# Altium schematic symbol library camera-modules.SCHLIB: 21 symbols
Pins are listed as number, name and electrical type; pins without a type are passive.

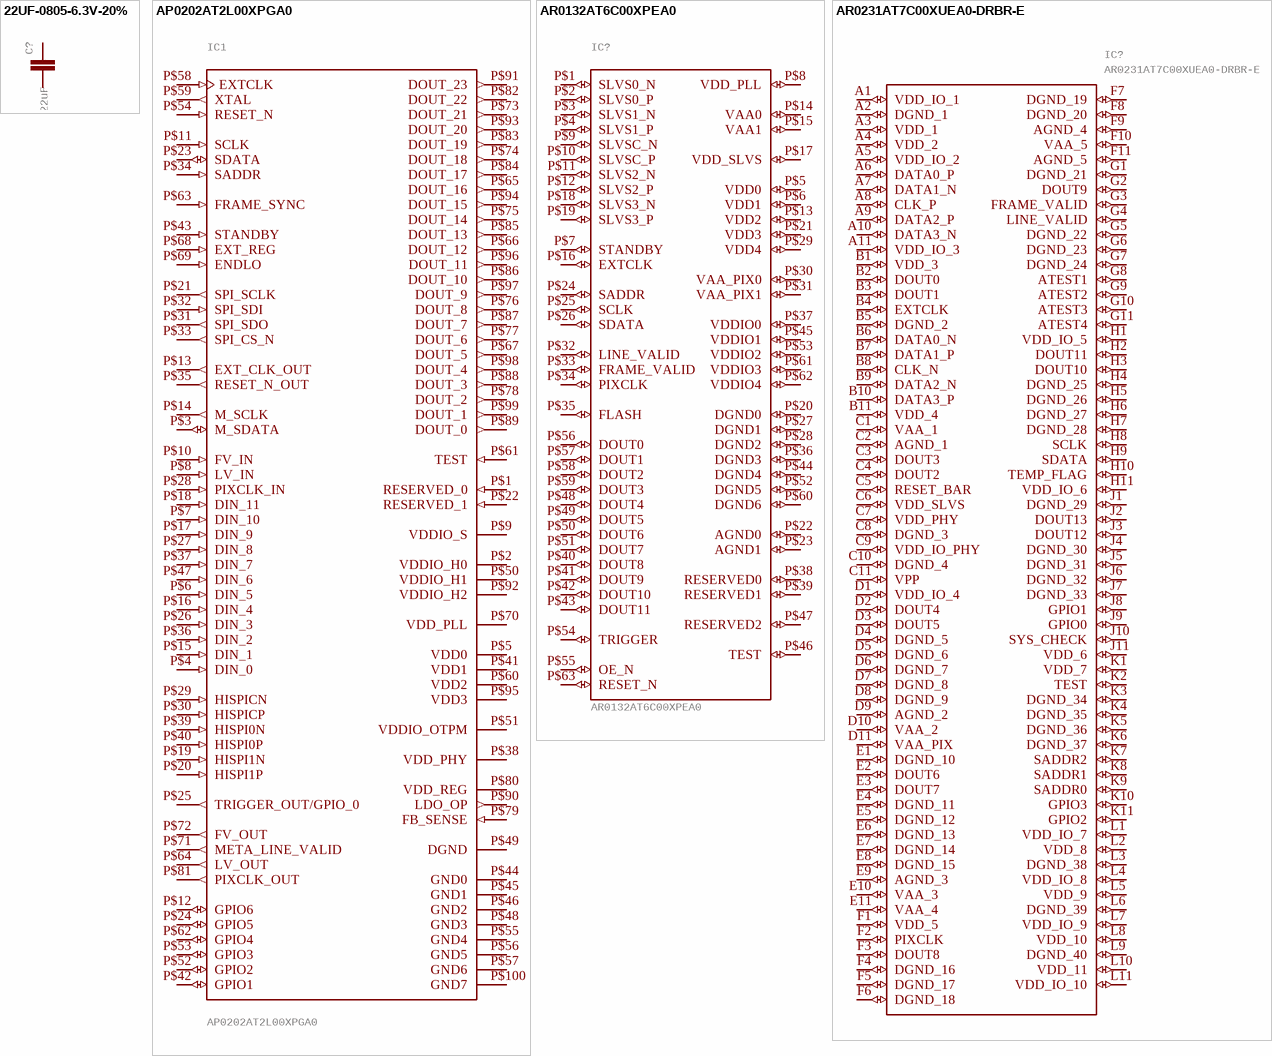
[diagram p0: symbols 22UF-0805-6.3V-20% to AR0231AT7C00XUEA0-DRBR-E]

## 22UF-0805-6.3V-20%
designator C?, comment 22uF
22ÂµF ceramic capacitors    A capacitor is a passive two-terminal electrical component used to store electrical energy temporarily in an electric field.; MPN: CL21A226MQQNNNE; GateName_1: G$1; SymbolName_1: CAP; DeviceName: -0805-6.3V-20%; PROD_ID: CAP-08402; LibraryName: SparkFun-Capacitors; DeviceSetName: 22UF
footprint 0805
pins: 1, 2

## AP0202AT2L00XPGA0
designator IC1
MPN: AP0202AT2L00XPGA0-DR; GateName_1: G$1; SymbolName_1: AP0202AT2L00XPGA0; LibraryName: AP0202AT2L00XPGA0; DeviceSetName: AP0202AT2L00XPGA0
footprint AP0202AT2L00XPGA0
pins: P$1 RESERVED_0 (in), P$2 VDDIO_H0 (power), P$3 M_SDATA (io), P$4 DIN_0 (in), P$5 VDD0 (power), P$6 DIN_5 (in), P$7 DIN_10 (in), P$8 LV_IN (in), P$9 VDDIO_S (power), P$10 FV_IN (in), P$11 SCLK (in), P$12 GPIO6 (io), P$13 EXT_CLK_OUT (out), P$14 M_SCLK (out), P$15 DIN_1 (in), P$16 DIN_4 (in), P$17 DIN_9 (in), P$18 DIN_11 (in), P$19 HISPI1N (in), P$20 HISPI1P (in), P$21 SPI_SCLK (out), P$22 RESERVED_1 (in), P$23 SDATA (io), P$24 GPIO5 (io), P$25 TRIGGER_OUT/GPIO_0 (out), P$26 DIN_3 (in), P$27 DIN_8 (in), P$28 PIXCLK_IN (in), P$29 HISPICN (in), P$30 HISPICP (in), P$31 SPI_SDO (out), P$32 SPI_SDI (in), P$33 SPI_CS_N (out), P$34 SADDR (in), P$35 RESET_N_OUT (out), P$36 DIN_2 (in), P$37 DIN_7 (in), P$38 VDD_PHY (power), P$39 HISPI0N (in), P$40 HISPI0P (in), P$41 VDD1 (power), P$42 GPIO1 (io), P$43 STANDBY (in), P$44 GND0 (power), P$45 GND1 (power), P$46 GND2 (power), P$47 DIN_6 (in), P$48 GND3 (power), P$49 DGND (power), P$50 VDDIO_H1 (power), P$51 VDDIO_OTPM (power), P$52 GPIO2 (io), P$53 GPIO3 (io), P$54 RESET_N (in), P$55 GND4 (power), P$56 GND5 (power), P$57 GND6 (power), P$58 EXTCLK (in), P$59 XTAL (out), P$60 VDD2 (power), P$61 TEST (in), P$62 GPIO4 (io), P$63 FRAME_SYNC (in), P$64 LV_OUT (out), P$65 DOUT_16 (out), P$66 DOUT_12 (out), P$67 DOUT_5 (out), P$68 EXT_REG (in), P$69 ENDLO (in), P$70 VDD_PLL (power), P$71 META_LINE_VALID (out), P$72 FV_OUT (out), P$73 DOUT_21 (out), P$74 DOUT_18 (out), P$75 DOUT_14 (out), P$76 DOUT_8 (out), P$77 DOUT_6 (out), P$78 DOUT_2 (out), P$79 FB_SENSE (in), P$80 VDD_REG (power), P$81 PIXCLK_OUT (out), P$82 DOUT_22 (out), P$83 DOUT_19 (out), P$84 DOUT_17 (out), P$85 DOUT_13 (out), P$86 DOUT_10 (out), P$87 DOUT_7 (out), P$88 DOUT_3 (out), P$89 DOUT_0 (out), P$90 LDO_OP (out), P$91 DOUT_23 (out), P$92 VDDIO_H2 (power), P$93 DOUT_20 (out), P$94 DOUT_15 (out), P$95 VDD3 (power), P$96 DOUT_11 (out), P$97 DOUT_9 (out), P$98 DOUT_4 (out), P$99 DOUT_1 (out), P$100 GND7 (power)

## AR0132AT6C00XPEA0
designator IC?
MPN: AR0132AT6C00XPEA0-TPBR; GateName_1: G$1; SymbolName_1: AR0132AT6C00XPEA0; LibraryName: AR0132AT6C00XPEA0; DeviceSetName: AR0132AT6C00XPEA0; Part Number: AR0132AT6C00XPEA0-TPBR
footprint AR0132AT6C00XPEA0
pins: P$1 SLVS0_N (io), P$2 SLVS0_P (io), P$3 SLVS1_N (io), P$4 SLVS1_P (io), P$5 VDD0 (io), P$6 VDD1 (io), P$7 STANDBY (io), P$8 VDD_PLL (io), P$9 SLVSC_N (io), P$10 SLVSC_P (io), P$11 SLVS2_N (io), P$12 SLVS2_P (io), P$13 VDD2 (io), P$14 VAA0 (io), P$15 VAA1 (io), P$16 EXTCLK (io), P$17 VDD_SLVS (io), P$18 SLVS3_N (io), P$19 SLVS3_P (io), P$20 DGND0 (io), P$21 VDD3 (io), P$22 AGND0 (io), P$23 AGND1 (io), P$24 SADDR (io), P$25 SCLK (io), P$26 SDATA (io), P$27 DGND1 (io), P$28 DGND2 (io), P$29 VDD4 (io), P$30 VAA_PIX0 (io), P$31 VAA_PIX1 (io), P$32 LINE_VALID (io), P$33 FRAME_VALID (io), P$34 PIXCLK (io), P$35 FLASH (io), P$36 DGND3 (io), P$37 VDDIO0 (io), P$38 RESERVED0 (io), P$39 RESERVED1 (io), P$40 DOUT8 (io), P$41 DOUT9 (io), P$42 DOUT10 (io), P$43 DOUT11 (io), P$44 DGND4 (io), P$45 VDDIO1 (io), P$46 TEST (io), P$47 RESERVED2 (io), P$48 DOUT4 (io), P$49 DOUT5 (io), P$50 DOUT6 (io), P$51 DOUT7 (io), P$52 DGND5 (io), P$53 VDDIO2 (io), P$54 TRIGGER (io), P$55 OE_N (io), P$56 DOUT0 (io), P$57 DOUT1 (io), P$58 DOUT2 (io), P$59 DOUT3 (io), P$60 DGND6 (io), P$61 VDDIO3 (io), P$62 VDDIO4 (io), P$63 RESET_N (io)

## AR0231AT7C00XUEA0-DRBR-E
designator IC?
Image Sensor Color CMOS 1928 x 1208Pixels   Source:  Datasheet; MANUFACTURER_NAME: onsemi; MPN: AR0231AT7C00XUEA0-DPBR; GateName_1: G$1; SymbolName_1: AR0231AT7C00XUEA0-DRBR-E; LibraryName: AR0231AT7C00XUEA0-DRBR-E; DeviceSetName: AR0231AT7C00XUEA0-DRBR-E; ARROW_PART_NUMBER: ARROW_PART_NUMBER; ARROW_PRICE-STOCK: ARROW_PRICE-STOCK; HEIGHT: 1.55mm; MANUFACTURER_PART_NUMBER: AR0231AT7C00XUEA0-DRBR-E; MOUSER_PART_NUMBER: MOUSER_PART_NUMBER; MOUSER_PRICE-STOCK: MOUSER_PRICE-STOCK
footprint BGA121C80P11X11_1100X1000X155
pins: A1 VDD_IO_1 (io), A2 DGND_1 (io), A3 VDD_1 (io), A4 VDD_2 (io), A5 VDD_IO_2 (io), A6 DATA0_P (io), A7 DATA1_N (io), A8 CLK_P (io), A9 DATA2_P (io), A10 DATA3_N (io), A11 VDD_IO_3 (io), B1 VDD_3 (io), B2 DOUT0 (io), B3 DOUT1 (io), B4 EXTCLK (io), B5 DGND_2 (io), B6 DATA0_N (io), B7 DATA1_P (io), B8 CLK_N (io), B9 DATA2_N (io), B10 DATA3_P (io), B11 VDD_4 (io), C1 VAA_1 (io), C2 AGND_1 (io), C3 DOUT3 (io), C4 DOUT2 (io), C5 RESET_BAR (io), C6 VDD_SLVS (io), C7 VDD_PHY (io), C8 DGND_3 (io), C9 VDD_IO_PHY (io), C10 DGND_4 (io), C11 VPP (io), D1 VDD_IO_4 (io), D2 DOUT4 (io), D3 DOUT5 (io), D4 DGND_5 (io), D5 DGND_6 (io), D6 DGND_7 (io), D7 DGND_8 (io), D8 DGND_9 (io), D9 AGND_2 (io), D10 VAA_2 (io), D11 VAA_PIX (io), E1 DGND_10 (io), E2 DOUT6 (io), E3 DOUT7 (io), E4 DGND_11 (io), E5 DGND_12 (io), E6 DGND_13 (io), E7 DGND_14 (io), E8 DGND_15 (io), E9 AGND_3 (io), E10 VAA_3 (io), E11 VAA_4 (io), F1 VDD_5 (io), F2 PIXCLK (io), F3 DOUT8 (io), F4 DGND_16 (io), F5 DGND_17 (io), F6 DGND_18 (io), F7 DGND_19 (io), F8 DGND_20 (io), F9 AGND_4 (io), F10 VAA_5 (io), F11 AGND_5 (io), G1 DGND_21 (io), G2 DOUT9 (io), G3 FRAME_VALID (io), G4 LINE_VALID (io), G5 DGND_22 (io), G6 DGND_23 (io), G7 DGND_24 (io), G8 ATEST1 (io), G9 ATEST2 (io), G10 ATEST3 (io), G11 ATEST4 (io), H1 VDD_IO_5 (io), H2 DOUT11 (io), H3 DOUT10 (io), H4 DGND_25 (io), H5 DGND_26 (io), H6 DGND_27 (io), H7 DGND_28 (io), H8 SCLK (io), H9 SDATA (io), H10 TEMP_FLAG (io), H11 VDD_IO_6 (io), J1 DGND_29 (io), J2 DOUT13 (io), J3 DOUT12 (io), J4 DGND_30 (io), J5 DGND_31 (io), J6 DGND_32 (io), J7 DGND_33 (io), J8 GPIO1 (io), J9 GPIO0 (io), J10 SYS_CHECK (io), J11 VDD_6 (io), K1 VDD_7 (io), K2 TEST (io), K3 DGND_34 (io), K4 DGND_35 (io), K5 DGND_36 (io), K6 DGND_37 (io), K7 SADDR2 (io), K8 SADDR1 (io), K9 SADDR0 (io), K10 GPIO3 (io), K11 GPIO2 (io), L1 VDD_IO_7 (io), L2 VDD_8 (io), L3 DGND_38 (io), L4 VDD_IO_8 (io), L5 VDD_9 (io), L6 DGND_39 (io), L7 VDD_IO_9 (io), L8 VDD_10 (io), L9 DGND_40 (io), L10 VDD_11 (io), L11 VDD_IO_10 (io)

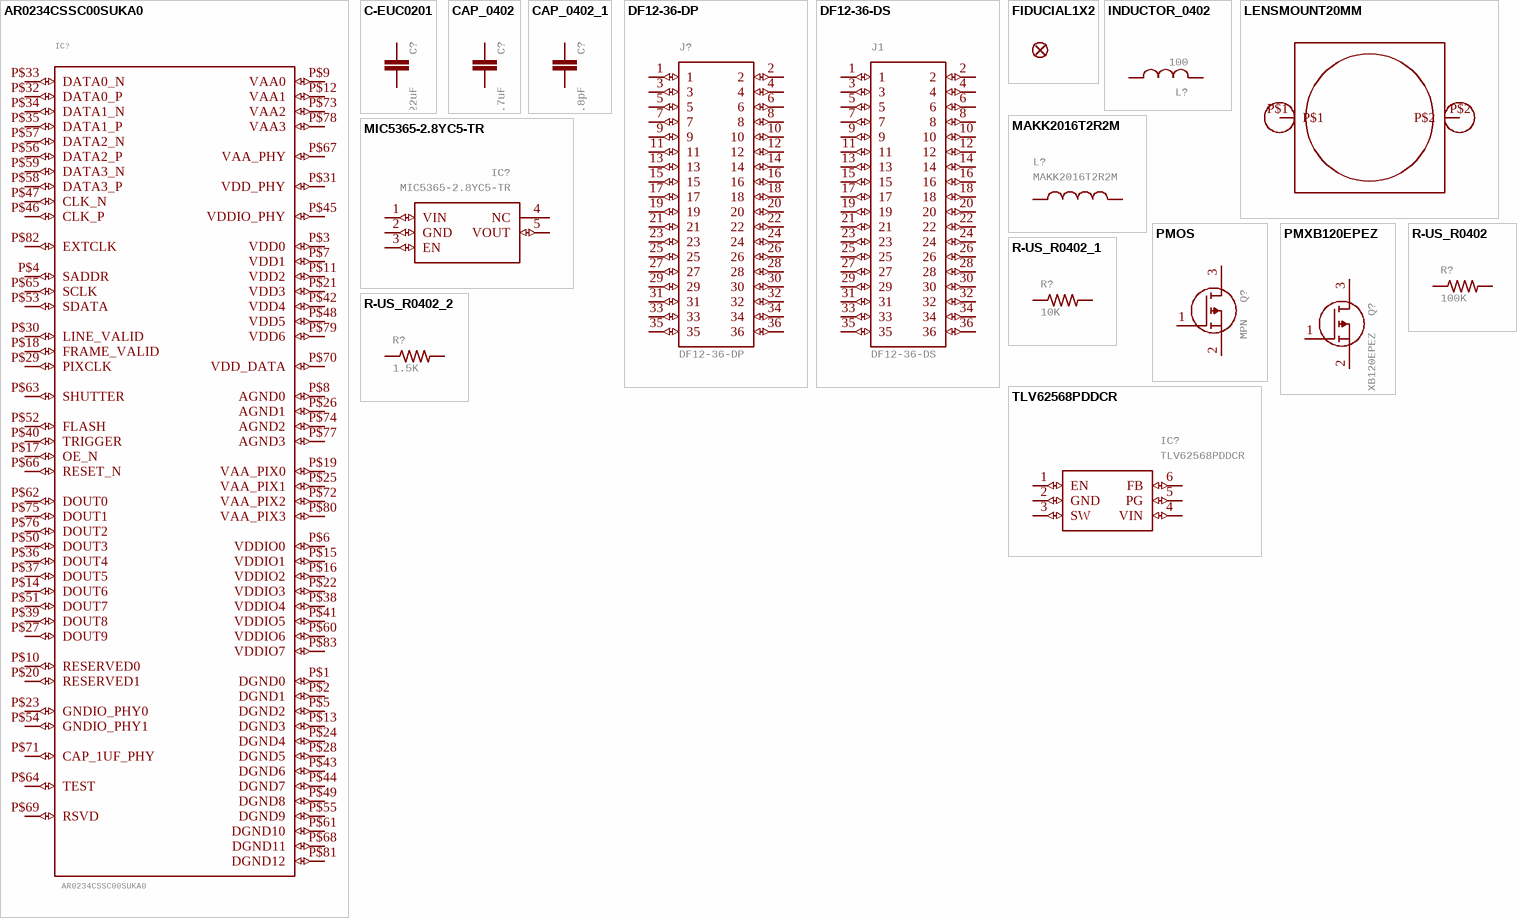
[diagram p1: symbols AR0234CSSC00SUKA0 to TLV62568PDDCR]

## AR0234CSSC00SUKA0
designator IC?
GateName_1: G$1; SymbolName_1: AR0234CSSC00SUKA0; LibraryName: AR0234CSSC00SUKA0; DeviceSetName: AR0234CSSC00SUKA0
footprint AR0234CSSC00SUKA0
pins: P$1 DGND0 (io), P$2 DGND1 (io), P$3 VDD0 (io), P$4 SADDR (io), P$5 DGND2 (io), P$6 VDDIO0 (io), P$7 VDD1 (io), P$8 AGND0 (io), P$9 VAA0 (io), P$10 RESERVED0 (io), P$11 VDD2 (io), P$12 VAA1 (io), P$13 DGND3 (io), P$14 DOUT6 (io), P$15 VDDIO1 (io), P$16 VDDIO2 (io), P$17 OE_N (io), P$18 FRAME_VALID (io), P$19 VAA_PIX0 (io), P$20 RESERVED1 (io), P$21 VDD3 (io), P$22 VDDIO3 (io), P$23 GNDIO_PHY0 (io), P$24 DGND4 (io), P$25 VAA_PIX1 (io), P$26 AGND1 (io), P$27 DOUT9 (io), P$28 DGND5 (io), P$29 PIXCLK (io), P$30 LINE_VALID (io), P$31 VDD_PHY (io), P$32 DATA0_P (io), P$33 DATA0_N (io), P$34 DATA1_N (io), P$35 DATA1_P (io), P$36 DOUT4 (io), P$37 DOUT5 (io), P$38 VDDIO4 (io), P$39 DOUT8 (io), P$40 TRIGGER (io), P$41 VDDIO5 (io), P$42 VDD4 (io), P$43 DGND6 (io), P$44 DGND7 (io), P$45 VDDIO_PHY (io), P$46 CLK_P (io), P$47 CLK_N (io), P$48 VDD5 (io), P$49 DGND8 (io), P$50 DOUT3 (io), P$51 DOUT7 (io), P$52 FLASH (io), P$53 SDATA (io), P$54 GNDIO_PHY1 (io), P$55 DGND9 (io), P$56 DATA2_P (io), P$57 DATA2_N (io), P$58 DATA3_P (io), P$59 DATA3_N (io), P$60 VDDIO6 (io), P$61 DGND10 (io), P$62 DOUT0 (io), P$63 SHUTTER (io), P$64 TEST (io), P$65 SCLK (io), P$66 RESET_N (io), P$67 VAA_PHY (io), P$68 DGND11 (io), P$69 RSVD (io), P$70 VDD_DATA (io), P$71 CAP_1UF_PHY (io), P$72 VAA_PIX2 (io), P$73 VAA2 (io), P$74 AGND2 (io), P$75 DOUT1 (io), P$76 DOUT2 (io), P$77 AGND3 (io), P$78 VAA3 (io), P$79 VDD6 (io), P$80 VAA_PIX3 (io), P$81 DGND12 (io), P$82 EXTCLK (io), P$83 VDDIO7 (io)

## C-EUC0201
designator C?, comment 0.22uF
CAPACITOR, European symbol; MPN: GRM033R60J224ME15D; GateName_1: G$1; SymbolName_1: C-EU; DeviceName: C0201; POPULARITY: 0; LibraryName: rcl; DeviceSetName: C-EU; SPICEPREFIX: C
footprint C0201
pins: 1, 2

## CAP_0402
designator C?, comment 4.7uF
0402 (1005 Metric) Nick Garner - TeleSense; MPN: JMK105BBJ475MV-F; GateName_1: G$1; SymbolName_1: CAP; DeviceSetName: CAP_0402; LibraryName: 0402
footprint 0402
pins: 1, 2

## CAP_0402_1
designator C?, comment 6.8pF
0402 (1005 Metric) Nick Garner - TeleSense; MPN: GRM1555C1H6R8DA01D; GateName_1: G$1; SymbolName_1: CAP; DeviceSetName: CAP_0402; LibraryName: 0402
footprint 0402
pins: 1, 2

## DF12-36-DP
designator J?
MPN: DF12NB(3.0)-36DP-0.5V(51); GateName_1: G$1; SymbolName_1: DF12-36; LibraryName: DF12NB(3.0)-36DP-0.5V(51); DeviceSetName: DF12-36-DP
footprint DF12-36-DP
pins: 1 (io), 2 (io), 3 (io), 4 (io), 5 (io), 6 (io), 7 (io), 8 (io), 9 (io), 10 (io), 11 (io), 12 (io), 13 (io), 14 (io), 15 (io), 16 (io), 17 (io), 18 (io), 19 (io), 20 (io), 21 (io), 22 (io), 23 (io), 24 (io), 25 (io), 26 (io), 27 (io), 28 (io), 29 (io), 30 (io), 31 (io), 32 (io), 33 (io), 34 (io), 35 (io), 36 (io)

## DF12-36-DS
designator J1
MPN: DF12NB-36DS-0.5V(51); GateName_1: G$1; SymbolName_1: DF12-36; LibraryName: DF12-36-DS; DeviceSetName: DF12-36-DS
footprint DF12-36-DS
pins: 1 (io), 2 (io), 3 (io), 4 (io), 5 (io), 6 (io), 7 (io), 8 (io), 9 (io), 10 (io), 11 (io), 12 (io), 13 (io), 14 (io), 15 (io), 16 (io), 17 (io), 18 (io), 19 (io), 20 (io), 21 (io), 22 (io), 23 (io), 24 (io), 25 (io), 26 (io), 27 (io), 28 (io), 29 (io), 30 (io), 31 (io), 32 (io), 33 (io), 34 (io), 35 (io), 36 (io)

## FIDUCIAL1X2
designator FD?  (value not drawn)
Fiducial Alignment Points    Point-of-reference for pick-and-place machines and other optical instruments.; GateName_1: G$1; DeviceName: 1X2; SymbolName_1: FIDUCIAL; LibraryName: SparkFun-Aesthetics; DeviceSetName: FIDUCIAL
footprint FIDUCIAL-1X2

## INDUCTOR_0402
designator L?, comment 100
MPN: MFBM1V1005-101-R; GateName_1: G$1; SymbolName_1: INDUCTOR; DeviceSetName: INDUCTOR_0402; LibraryName: 0402
footprint 0402
pins: 1 P$1, 2 P$2

## LENSMOUNT20MM
designator H?  (value not drawn)
GateName_1: G$1; SymbolName_1: LENS; DeviceName: 20MM; LibraryName: lensmount; DeviceSetName: LENSMOUNT
footprint LENSMOUNT-20MM
pins: P$1 (power), P$2 (power)

## MAKK2016T2R2M
designator L?
INDUCTOR, METAL CORE Check availability; GateName_1: G$1; MF: Taiyo Yuden; SymbolName_1: MAKK2016T2R2M; LibraryName: MAKK2016T2R2M; DeviceSetName: MAKK2016T2R2M; AVAILABILITY: In Stock; MP: MAKK2016T2R2M; MPN: MAKK2016T2R2M; PACKAGE: 2016 Taiyo Yuden; PRICE: None; PURCHASE-URL: https://pricing.snapeda.com/search/part/MAKK2016T2R2M/?ref=eda
footprint INDC2016X100N
pins: 1, 2

## MIC5365-2.8YC5-TR
designator IC?
IC REG LINEAR 2.8V 150MA SC70-5   Source:  Datasheet; MANUFACTURER_NAME: Microchip; GateName_1: G$1; SymbolName_1: MIC5365-2.8YC5-TR; LibraryName: MIC5365-2.8YC5-TR; DeviceSetName: MIC5365-2.8YC5-TR; HEIGHT: 1.1mm; MANUFACTURER_PART_NUMBER: MIC5365-2.8YC5-TR; MOUSER_PART_NUMBER: 998-MIC5365-2.8YC5TR; MOUSER_PRICE-STOCK: https://www.mouser.co.uk/ProductDetail/Microchip-Technology-Atmel/MIC5365-2.8YC5-TR?qs=U6T8BxXiZAX3mJDSWJyjVA%3D%3D; MPN: MIC5365-2.8YC5-TR
footprint SOT65P210X110-5N
pins: 1 VIN (io), 2 GND (io), 3 EN (io), 4 NC, 5 VOUT (io)

## PMOS
designator Q?, comment MPN
GateName_1: G$1
footprint PMXB120EPEZ
pins: 1 G (io), 2 S (io), 3 D (io)

## PMXB120EPEZ
designator Q?
MOSFET 30 V, P-channel Trench MOSFET   Source:  Datasheet; MANUFACTURER_NAME: Nexperia; GateName_1: G$1; SymbolName_1: PMXB120EPEZ; LibraryName: PMXB120EPEZ; DeviceSetName: PMXB120EPEZ; HEIGHT: 0.4mm; MANUFACTURER_PART_NUMBER: PMXB120EPEZ; MOUSER_PART_NUMBER: 771-PMXB120EPEZ; MOUSER_PRICE-STOCK: https://www.mouser.co.uk/ProductDetail/Nexperia/PMXB120EPEZ?qs=gNSudQoqUYCYLaOobF3dPA%3D%3D; MPN: PMXB120EPEZ
footprint PMXB120EPEZ
pins: 1 G (io), 2 S (io), 3 D (io)

## R-US_R0402
designator R?, comment 100K
RESISTOR, American symbol; MPN: AC0402FR-07100KL; GateName_1: G$1; SymbolName_1: R-US; DeviceName: R0402; DeviceSetName: R-US_; POPULARITY: 34; LibraryName: rcl; SPICEPREFIX: R
footprint R0402
pins: 1, 2

## R-US_R0402_1
designator R?, comment 10K
RESISTOR, American symbol; MPN: AC0402FR-1310KL; GateName_1: G$1; SymbolName_1: R-US; DeviceName: R0402; DeviceSetName: R-US_; POPULARITY: 34; LibraryName: rcl; SPICEPREFIX: R
footprint R0402
pins: 1, 2

## R-US_R0402_2
designator R?, comment 1.5K
RESISTOR, American symbol; MPN: RC0402FR-131K5L; GateName_1: G$1; SymbolName_1: R-US; DeviceName: R0402; DeviceSetName: R-US_; POPULARITY: 34; LibraryName: rcl; SPICEPREFIX: R
footprint R0402
pins: 1, 2

## TLV62568PDDCR
designator IC?
2.5V-5.5V input, 1A high efficiency step-down buck converter in SOT23 and SOT563 package   Source:  Datasheet; MANUFACTURER_NAME: Texas Instruments; GateName_1: G$1; SymbolName_1: TLV62568PDDCR; LibraryName: TLV62568PDDCR; DeviceSetName: TLV62568PDDCR; HEIGHT: 1.1mm; MANUFACTURER_PART_NUMBER: TLV62568PDDCR; MOUSER_PART_NUMBER: 595-TLV62568PDDCR; MOUSER_PRICE-STOCK: https://www.mouser.co.uk/ProductDetail/Texas-Instruments/TLV62568PDDCR?qs=1mbolxNpo8f1FPchIXcxyQ%3D%3D; MPN: TLV62568PDDCR
footprint SOT95P280X110-6N
pins: 1 EN (io), 2 GND (io), 3 SW (io), 4 VIN (io), 5 PG (io), 6 FB (io)